# EAGLE library part PRTR5V0U2* (library diode)
Ultra low capacitance double rail-to-rail ESD protection
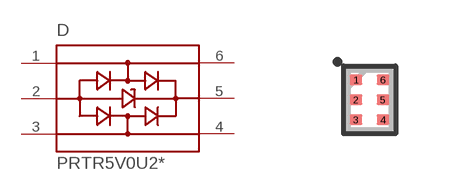
[diagram p0: symbol with the pads of SOT886; footprint SOT886]

Designator prefix D

## PRTR5V0U2, PRTR5V0U2F (REVERSE_VOLTAGE: 5.5V)  [SOT886]
1  1
2  2
3  3
4  4
5  5
6  6

## Footprint SOT886 (pad centres in mm)
smd 0.325 x 0.27: 1 -0.338,0.5; 2 -0.338,0; 3 -0.338,-0.5; 4 0.338,-0.5; 5 0.338,0; 6 0.338,0.5